# EAGLE library part TPS62150RGTR (library TPS62150RGTR)
317V 1A Step-Down Converter with DCS-Control in 3x3 QFN package Source: Datasheet <http://www.ti.com/lit/gpn/tps62150>
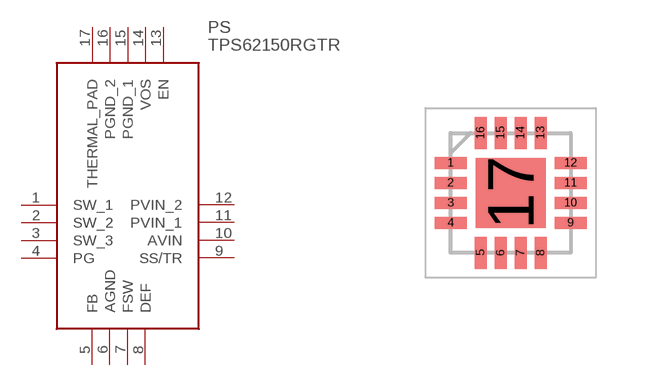
[diagram p0: symbol with the pads of QFN50P300X300X100-17N; footprint QFN50P300X300X100-17N]

Designator prefix PS

## TPS62150RGTR (Description: 317V 1A Step-Down Converter with DCS-Control in 3x3 QFN package; Height: 1mm; Manufacturer_Name: Texas Instruments; Manufacturer_Part_Number: TPS62150RGTR; Mouser_Part_Number: 595-TPS62150RGTR; Mouser_Price-Stock: https://www.mouser.co.uk/ProductDetail/Texas-Instruments/TPS62150RGTR?qs=gXEV9p%2FxLgee1dYSWoqQIw%3D%3D)  [QFN50P300X300X100-17N]
1  SW_1  in
2  SW_2  in
3  SW_3
4  PG
5  FB
6  AGND  pwr
7  FSW
8  DEF
9  SS/TR
10  AVIN
11  PVIN_1
12  PVIN_2
13  EN
14  VOS
15  PGND_1  pwr
16  PGND_2  pwr
17  THERMAL_PAD  pwr

## Footprint QFN50P300X300X100-17N (pad centres in mm)
RGT0016C_2
smd 0.8 x 0.3: 1 -1.5,0.75; 2 -1.5,0.25; 3 -1.5,-0.25; 4 -1.5,-0.75; 9 1.5,-0.75; 10 1.5,-0.25; 11 1.5,0.25; 12 1.5,0.75
smd 0.3 x 0.8: 5 -0.75,-1.5; 6 -0.25,-1.5; 7 0.25,-1.5; 8 0.75,-1.5; 13 0.75,1.5; 14 0.25,1.5; 15 -0.25,1.5; 16 -0.75,1.5
smd 1.75 x 1.75: 17 0,0